# Altium integrated library Linear Technology Power Management Hot Swap Controllers.IntLib: 992 symbols (part 39 of 93)
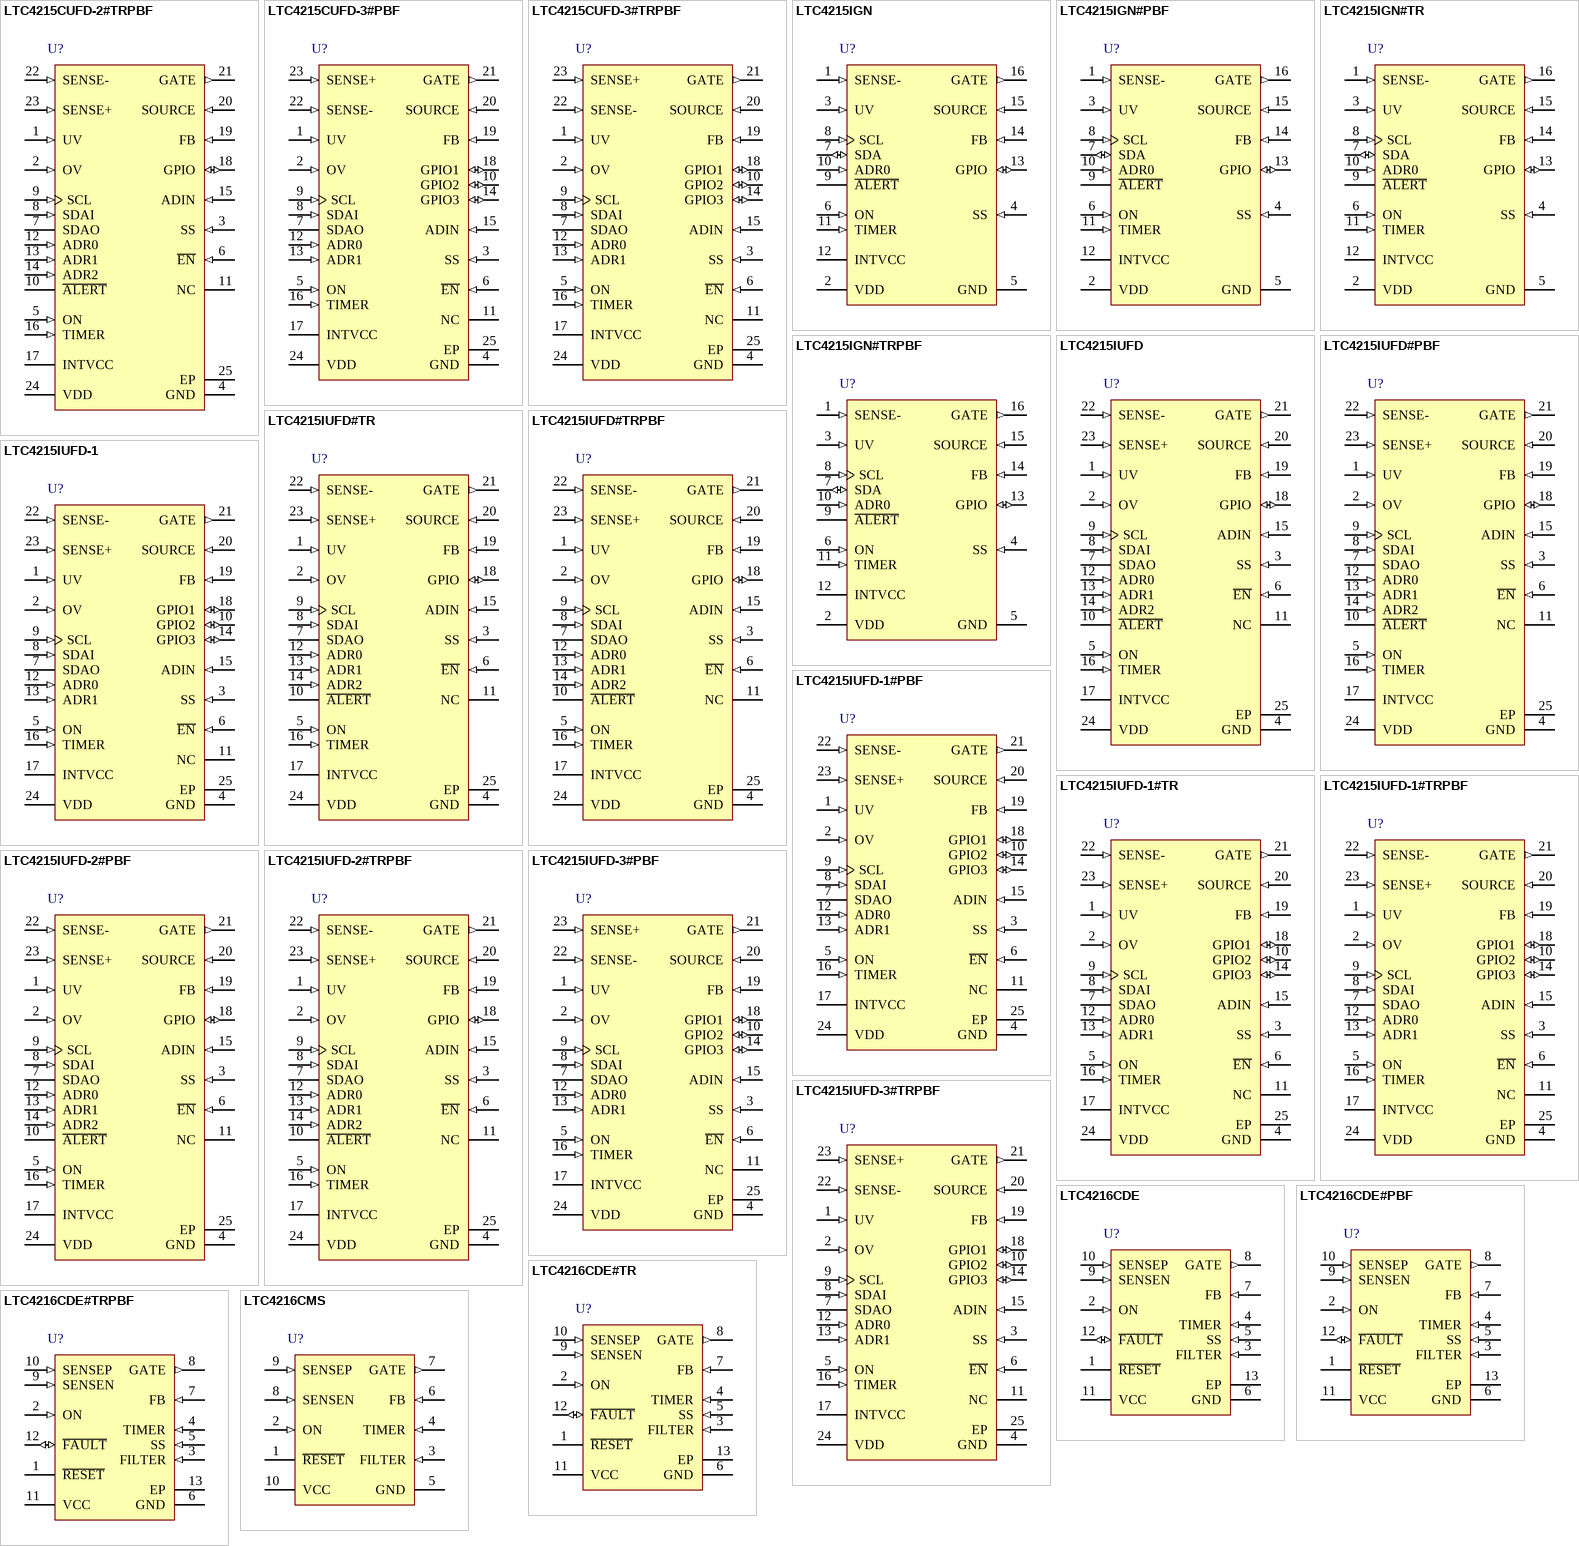
[diagram p75: symbols LTC4215CUFD-2#TRPBF to LTC4216CMS]

## LTC4216CDE#TR
designator U?
Ultralow Voltage Hot Swap Controller, 0 to 6 V Vin, 12-pin SON (DE-UE-12), 0 to 70 degC, Tape and Reel; Manufacturer: Linear Technology; PartNumber: LTC4216CDE#TR; Active Limiting: yes; Circuit Breaker Accuracy(%): 14; Circuit Breaker Threshold: 25 mV; Circuit Breakers(#): 1; Extended Temp: C, I; Fast Comparator: no; In-Rush Current: Active/SS; Vin Range: 0 to 6 V; DatasheetVersion: Rev. A; PackageVersion: Rev. D, 06/2010; PackageReference: DE-UE-12; PackageDescription: 12-Pin Plastic DFN, Body 4 x 3 mm, Pitch 0.5 mm; Fault: yes; Foldback: no; Packing: Tape and Reel; Power Good: no; Reset: yes; RoHS: FALSE; Mounting Technology: Surface Mount; Code_JEDEC: MO-229; ComponentLink1Description: Manufacturer URL; ComponentLink1URL: http://www.linear.com/; ComponentLink2Description: Datasheet; ComponentLink2URL: http://cds.linear.com/docs/en/datasheet/4216fa.pdf; ComponentLink3Description: Package Specification; ComponentLink3URL: http://cds.linear.com/docs/en/packaging/DFN_12_05-08-1695.pdf
footprint LT-DE-UE-12_V (SON, 12-Leads, Body 4x3mm, Pitch 0.5mm, Thermal Pad 3.3x1.7mm)
pins: 1 ~{RESET} (hiz) "Reset or Power-Good Output. Open drain output that pulls low if the FB pin voltage falls below its threshold (0.6V). During the start-up cycle, the R\E\S\E\T\ pin goes high impedance at the end of the second timing cycle (See Datasheet)", 2 ON (in) "ON Control Input. A rising edge above the ON pin threshold (0.8V) initiates the start-up cycle and turns on the external N-channel MOSFET. A falling edge below 0.72V (80mV ON pin hysteresis) turns it off. If this pin is (See Datasheet)", 3 FILTER (in) "Fault Filter Input. Connect a capacitor between this pin and ground to set up the fault filter delay. This pin sources 60uA or sinks 2.4uA when the voltage across the sense resistor exceeds 25mV or drops below 25mV (See Datasheet)", 4 TIMER (in) "Timer Input. Connect a capacitor between this pin and ground to set up the start-up timing cycle duration. It also defines the R\E\S\E\T\ power-good delay from the instant the FB pin voltage exceeds 0.6V. This pin sources (See Datasheet)", 5 SS (in) "Soft-Start Control Input. Connect a capacitor between this pin and ground for soft-start during power-up. It controls the GATE ramp up, limiting the rate of change of the inrush current when the external MOSFET turns on. If (See Datasheet)", 6 GND (power) "Device Ground.", 7 FB (in) "Output Monitor for Reset Output. A resistive divider from the external MOSFET’s source terminal is tied to this pin. When the voltage at this pin drops below 0.6V, the R\E\S\E\T\ pin pulls low. The FB comparator fallin(See Datasheet)", 8 GATE (out) "Gate Drive for External N-Channel MOSFET. An internal charge pump provides 20uA gate pull-up current and sufficient gate overdrive to the external MOSFET. An internal shunt regulator limits the GATE pin voltage to about 6.2V (See Datasheet)", 9 SENSEN (in) "Circuit Breaker Negative Sense Input. Connect this pin to the sense resistor terminal wired to the drain of the external N-channel MOSFET. The sense resistor is placed in the power path between SENSEP and SENSEN pins to (See Datasheet)", 10 SENSEP (in) "Circuit Breaker Positive Sense Input. Connect this pin to the sense resistor terminal wired to the positive supply input for the external output load. This positive supply range extends from 0V to 6V.", 11 VCC (power) "Bias Supply Input. Operates from 2.3V to 6V. An internal undervoltage lockout circuit disables the device until the input supply voltage at VCC exceeds 2.12V typically.", 12 ~{FAULT} (io) "Fault Input and Output. As an input, driving this pin low (<1.253V) will latch-off the device to fault mode. As an output, it is either pulled high by an internal 5uA pull-up or an external pull-up resistor to positive (See Datasheet)", 13 EP (power) "Exposed pad may be left open or connected to device ground."

## LTC4216CDE#TRPBF
designator U?
Ultralow Voltage Hot Swap Controller, 0 to 6 V Vin, 12-pin SON (DE-UE-12), 0 to 70 degC, Pb-Free, Tape and Reel; Manufacturer: Linear Technology; PartNumber: LTC4216CDE#TRPBF; Active Limiting: yes; Circuit Breaker Accuracy(%): 14; Circuit Breaker Threshold: 25 mV; Circuit Breakers(#): 1; Extended Temp: C, I; Fast Comparator: no; In-Rush Current: Active/SS; Vin Range: 0 to 6 V; DatasheetVersion: Rev. A; PackageVersion: Rev. D, 06/2010; PackageReference: DE-UE-12; PackageDescription: 12-Pin Plastic DFN, Body 4 x 3 mm, Pitch 0.5 mm; Supplier 1: Digi-Key; Supplier Part Number 1: LTC4216CDE#TRPBF-ND; Supplier 2: Newark; Supplier Part Number 2: 56M8842; Fault: yes; Foldback: no; Packing: Tape and Reel; Power Good: no; Reset: yes; RoHS: TRUE; Mounting Technology: Surface Mount; Code_JEDEC: MO-229; ComponentLink1Description: Manufacturer URL; ComponentLink1URL: http://www.linear.com/; ComponentLink2Description: Datasheet; ComponentLink2URL: http://cds.linear.com/docs/en/datasheet/4216fa.pdf; ComponentLink3Description: Package Specification; ComponentLink3URL: http://cds.linear.com/docs/en/packaging/DFN_12_05-08-1695.pdf
footprint LT-DE-UE-12_V (SON, 12-Leads, Body 4x3mm, Pitch 0.5mm, Thermal Pad 3.3x1.7mm)
pins: 1 ~{RESET} (hiz) "Reset or Power-Good Output. Open drain output that pulls low if the FB pin voltage falls below its threshold (0.6V). During the start-up cycle, the R\E\S\E\T\ pin goes high impedance at the end of the second timing cycle (See Datasheet)", 2 ON (in) "ON Control Input. A rising edge above the ON pin threshold (0.8V) initiates the start-up cycle and turns on the external N-channel MOSFET. A falling edge below 0.72V (80mV ON pin hysteresis) turns it off. If this pin is (See Datasheet)", 3 FILTER (in) "Fault Filter Input. Connect a capacitor between this pin and ground to set up the fault filter delay. This pin sources 60uA or sinks 2.4uA when the voltage across the sense resistor exceeds 25mV or drops below 25mV (See Datasheet)", 4 TIMER (in) "Timer Input. Connect a capacitor between this pin and ground to set up the start-up timing cycle duration. It also defines the R\E\S\E\T\ power-good delay from the instant the FB pin voltage exceeds 0.6V. This pin sources (See Datasheet)", 5 SS (in) "Soft-Start Control Input. Connect a capacitor between this pin and ground for soft-start during power-up. It controls the GATE ramp up, limiting the rate of change of the inrush current when the external MOSFET turns on. If (See Datasheet)", 6 GND (power) "Device Ground.", 7 FB (in) "Output Monitor for Reset Output. A resistive divider from the external MOSFET’s source terminal is tied to this pin. When the voltage at this pin drops below 0.6V, the R\E\S\E\T\ pin pulls low. The FB comparator fallin(See Datasheet)", 8 GATE (out) "Gate Drive for External N-Channel MOSFET. An internal charge pump provides 20uA gate pull-up current and sufficient gate overdrive to the external MOSFET. An internal shunt regulator limits the GATE pin voltage to about 6.2V (See Datasheet)", 9 SENSEN (in) "Circuit Breaker Negative Sense Input. Connect this pin to the sense resistor terminal wired to the drain of the external N-channel MOSFET. The sense resistor is placed in the power path between SENSEP and SENSEN pins to (See Datasheet)", 10 SENSEP (in) "Circuit Breaker Positive Sense Input. Connect this pin to the sense resistor terminal wired to the positive supply input for the external output load. This positive supply range extends from 0V to 6V.", 11 VCC (power) "Bias Supply Input. Operates from 2.3V to 6V. An internal undervoltage lockout circuit disables the device until the input supply voltage at VCC exceeds 2.12V typically.", 12 ~{FAULT} (io) "Fault Input and Output. As an input, driving this pin low (<1.253V) will latch-off the device to fault mode. As an output, it is either pulled high by an internal 5uA pull-up or an external pull-up resistor to positive (See Datasheet)", 13 EP (power) "Exposed pad may be left open or connected to device ground."

## LTC4216CMS
designator U?
Ultralow Voltage Hot Swap Controller, 0 to 6 V Vin, 10-pin SOP (MS-10), 0 to 70 degC; Manufacturer: Linear Technology; PartNumber: LTC4216CMS; Active Limiting: yes; Circuit Breaker Accuracy(%): 14; Circuit Breaker Threshold: 25 mV; Circuit Breakers(#): 1; Extended Temp: C, I; Fast Comparator: no; In-Rush Current: Active/SS; Vin Range: 0 to 6 V; DatasheetVersion: Rev. A; PackageVersion: Rev. E, 06/2010; PackageReference: MS-10; PackageDescription: 10-Pin Plastic MSOP, Body 3 x 3 mm, Pitch 0.5 mm; Fault: yes; Foldback: no; Power Good: no; Reset: yes; RoHS: FALSE; Mounting Technology: Surface Mount; ComponentLink1Description: Manufacturer URL; ComponentLink1URL: http://www.linear.com/; ComponentLink2Description: Datasheet; ComponentLink2URL: http://cds.linear.com/docs/en/datasheet/4216fa.pdf; ComponentLink3Description: Package Specification; ComponentLink3URL: http://cds.linear.com/docs/en/packaging/05081661_F_MS.pdf
footprint LT-MS-10_N (SOP, 10-Leads, Body 3.1x3.1mm, Pitch 0.5mm, IPC Medium Density)
footprint LT-MS-10_L (SOP, 10-Leads, Body 3.1x3.1mm, Pitch 0.5mm, IPC High Density)
footprint LT-MS-10_M (SOP, 10-Leads, Body 3.1x3.1mm, Pitch 0.5mm, IPC Low Density)
pins: 1 ~{RESET} (hiz) "Reset or Power-Good Output. Open drain output that pulls low if the FB pin voltage falls below its threshold (0.6V). During the start-up cycle, the R\E\S\E\T\ pin goes high impedance at the end of the second timing cycle (See Datasheet)", 2 ON (in) "ON Control Input. A rising edge above the ON pin threshold (0.8V) initiates the start-up cycle and turns on the external N-channel MOSFET. A falling edge below 0.72V (80mV ON pin hysteresis) turns it off. If this pin is (See Datasheet)", 3 FILTER (in) "Fault Filter Input. Connect a capacitor between this pin and ground to set up the fault filter delay. This pin sources 60uA or sinks 2.4uA when the voltage across the sense resistor exceeds 25mV or drops below 25mV (See Datasheet)", 4 TIMER (in) "Timer Input. Connect a capacitor between this pin and ground to set up the start-up timing cycle duration. It also defines the R\E\S\E\T\ power-good delay from the instant the FB pin voltage exceeds 0.6V. This pin sources (See Datasheet)", 5 GND (power) "Device Ground.", 6 FB (in) "Output Monitor for Reset Output. A resistive divider from the external MOSFET’s source terminal is tied to this pin. When the voltage at this pin drops below 0.6V, the R\E\S\E\T\ pin pulls low. The FB comparator fallin(See Datasheet)", 7 GATE (out) "Gate Drive for External N-Channel MOSFET. An internal charge pump provides 20uA gate pull-up current and sufficient gate overdrive to the external MOSFET. An internal shunt regulator limits the GATE pin voltage to about 6.2V (See Datasheet)", 8 SENSEN (in) "Circuit Breaker Negative Sense Input. Connect this pin to the sense resistor terminal wired to the drain of the external N-channel MOSFET. The sense resistor is placed in the power path between SENSEP and SENSEN pins to (See Datasheet)", 9 SENSEP (in) "Circuit Breaker Positive Sense Input. Connect this pin to the sense resistor terminal wired to the positive supply input for the external output load. This positive supply range extends from 0V to 6V.", 10 VCC (power) "Bias Supply Input. Operates from 2.3V to 6V. An internal undervoltage lockout circuit disables the device until the input supply voltage at VCC exceeds 2.12V typically."

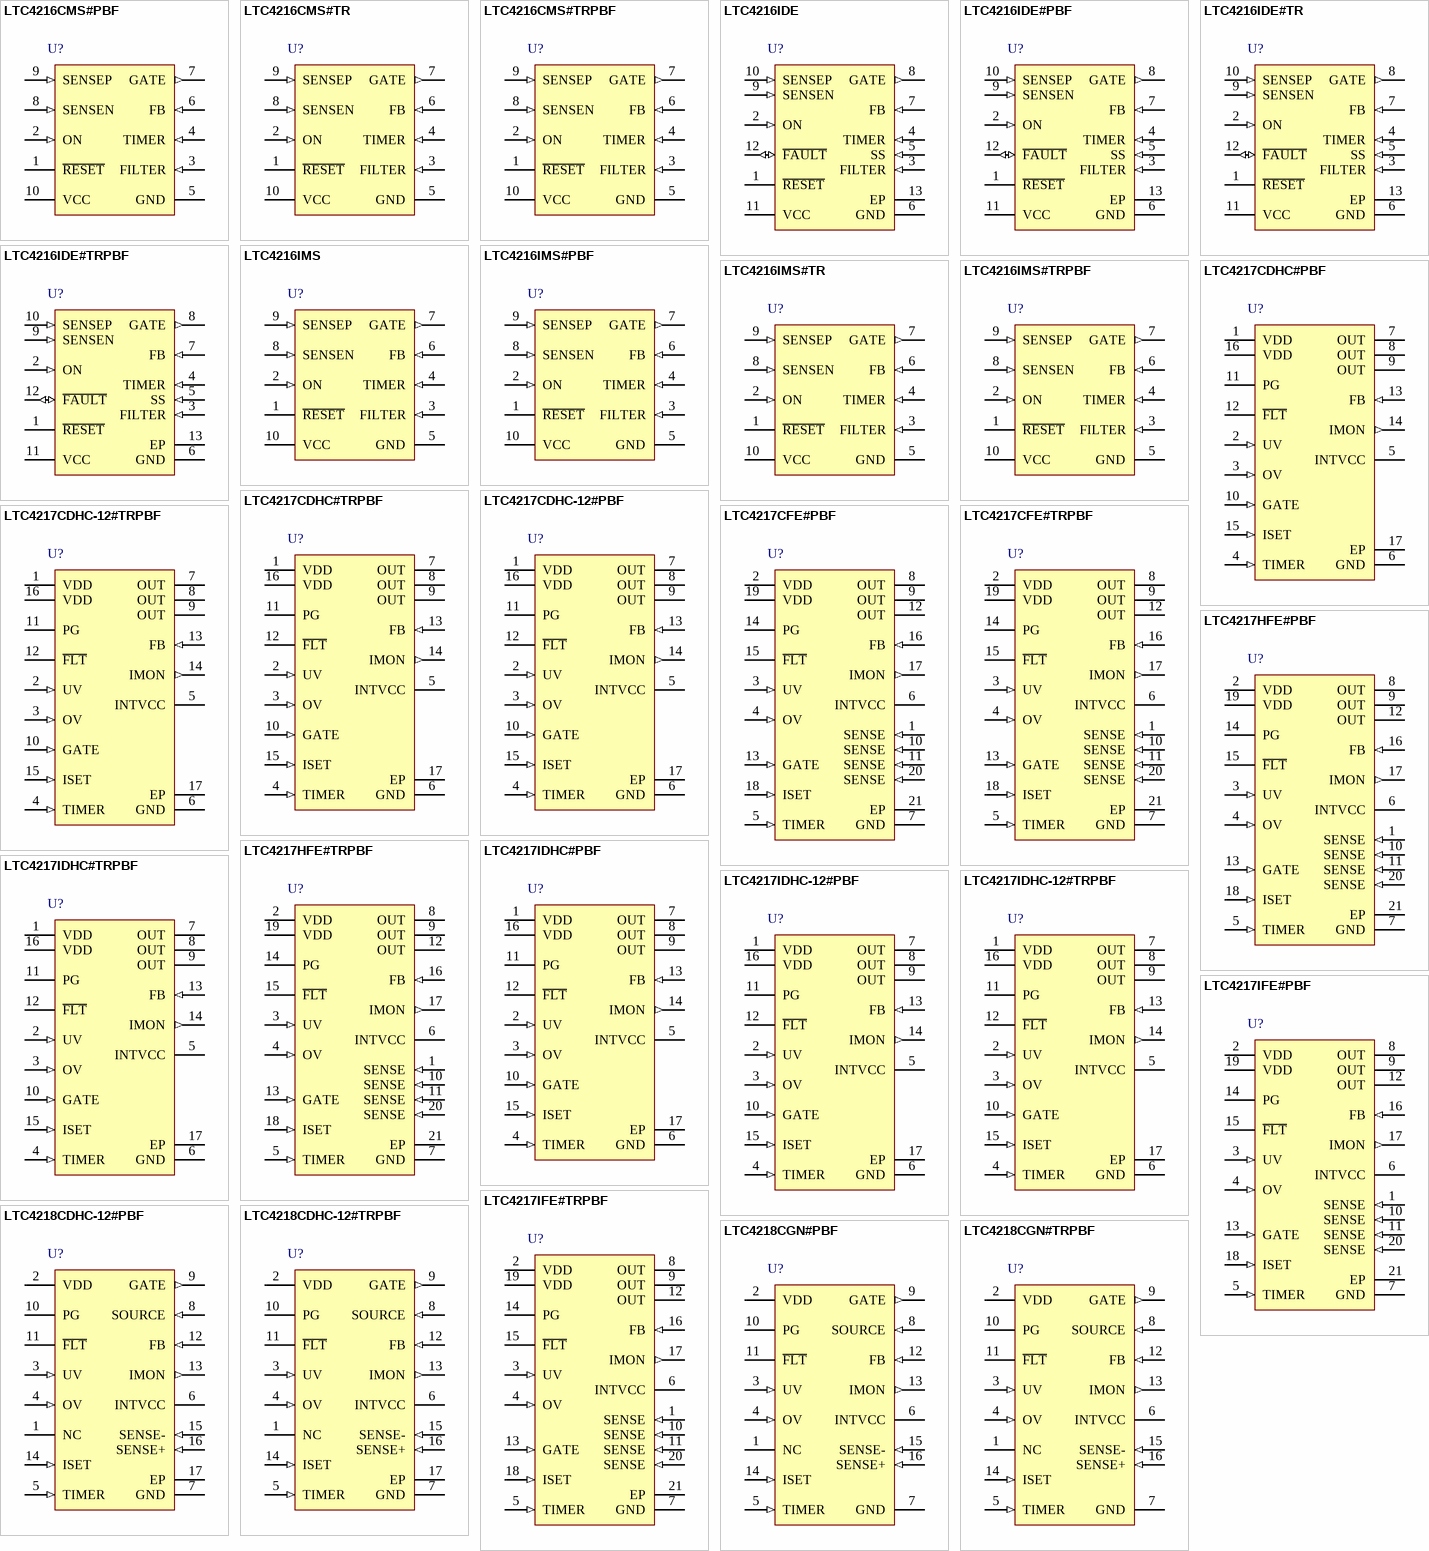
[diagram p16: symbols LTC4216CMS#PBF to LTC4218CGN#TRPBF]

## LTC4216CMS#PBF
designator U?
Ultralow Voltage Hot Swap Controller, 0 to 6 V Vin, 10-pin SOP (MS-10), 0 to 70 degC, Pb-Free; Manufacturer: Linear Technology; PartNumber: LTC4216CMS#PBF; Active Limiting: yes; Circuit Breaker Accuracy(%): 14; Circuit Breaker Threshold: 25 mV; Circuit Breakers(#): 1; Extended Temp: C, I; Fast Comparator: no; In-Rush Current: Active/SS; Vin Range: 0 to 6 V; DatasheetVersion: Rev. A; PackageVersion: Rev. E, 06/2010; PackageReference: MS-10; PackageDescription: 10-Pin Plastic MSOP, Body 3 x 3 mm, Pitch 0.5 mm; Supplier 1: Digi-Key; Supplier Part Number 1: LTC4216CMS#PBF-ND; Fault: yes; Foldback: no; Power Good: no; Reset: yes; RoHS: TRUE; Mounting Technology: Surface Mount; ComponentLink1Description: Manufacturer URL; ComponentLink1URL: http://www.linear.com/; ComponentLink2Description: Datasheet; ComponentLink2URL: http://cds.linear.com/docs/en/datasheet/4216fa.pdf; ComponentLink3Description: Package Specification; ComponentLink3URL: http://cds.linear.com/docs/en/packaging/05081661_F_MS.pdf
footprint LT-MS-10_N (SOP, 10-Leads, Body 3.1x3.1mm, Pitch 0.5mm, IPC Medium Density)
footprint LT-MS-10_L (SOP, 10-Leads, Body 3.1x3.1mm, Pitch 0.5mm, IPC High Density)
footprint LT-MS-10_M (SOP, 10-Leads, Body 3.1x3.1mm, Pitch 0.5mm, IPC Low Density)
pins: 1 ~{RESET} (hiz) "Reset or Power-Good Output. Open drain output that pulls low if the FB pin voltage falls below its threshold (0.6V). During the start-up cycle, the R\E\S\E\T\ pin goes high impedance at the end of the second timing cycle (See Datasheet)", 2 ON (in) "ON Control Input. A rising edge above the ON pin threshold (0.8V) initiates the start-up cycle and turns on the external N-channel MOSFET. A falling edge below 0.72V (80mV ON pin hysteresis) turns it off. If this pin is (See Datasheet)", 3 FILTER (in) "Fault Filter Input. Connect a capacitor between this pin and ground to set up the fault filter delay. This pin sources 60uA or sinks 2.4uA when the voltage across the sense resistor exceeds 25mV or drops below 25mV (See Datasheet)", 4 TIMER (in) "Timer Input. Connect a capacitor between this pin and ground to set up the start-up timing cycle duration. It also defines the R\E\S\E\T\ power-good delay from the instant the FB pin voltage exceeds 0.6V. This pin sources (See Datasheet)", 5 GND (power) "Device Ground.", 6 FB (in) "Output Monitor for Reset Output. A resistive divider from the external MOSFET’s source terminal is tied to this pin. When the voltage at this pin drops below 0.6V, the R\E\S\E\T\ pin pulls low. The FB comparator fallin(See Datasheet)", 7 GATE (out) "Gate Drive for External N-Channel MOSFET. An internal charge pump provides 20uA gate pull-up current and sufficient gate overdrive to the external MOSFET. An internal shunt regulator limits the GATE pin voltage to about 6.2V (See Datasheet)", 8 SENSEN (in) "Circuit Breaker Negative Sense Input. Connect this pin to the sense resistor terminal wired to the drain of the external N-channel MOSFET. The sense resistor is placed in the power path between SENSEP and SENSEN pins to (See Datasheet)", 9 SENSEP (in) "Circuit Breaker Positive Sense Input. Connect this pin to the sense resistor terminal wired to the positive supply input for the external output load. This positive supply range extends from 0V to 6V.", 10 VCC (power) "Bias Supply Input. Operates from 2.3V to 6V. An internal undervoltage lockout circuit disables the device until the input supply voltage at VCC exceeds 2.12V typically."

## LTC4216CMS#TR
designator U?
Ultralow Voltage Hot Swap Controller, 0 to 6 V Vin, 10-pin SOP (MS-10), 0 to 70 degC, Tape and Reel; Manufacturer: Linear Technology; PartNumber: LTC4216CMS#TR; Active Limiting: yes; Circuit Breaker Accuracy(%): 14; Circuit Breaker Threshold: 25 mV; Circuit Breakers(#): 1; Extended Temp: C, I; Fast Comparator: no; In-Rush Current: Active/SS; Vin Range: 0 to 6 V; DatasheetVersion: Rev. A; PackageVersion: Rev. E, 06/2010; PackageReference: MS-10; PackageDescription: 10-Pin Plastic MSOP, Body 3 x 3 mm, Pitch 0.5 mm; Fault: yes; Foldback: no; Packing: Tape and Reel; Power Good: no; Reset: yes; RoHS: FALSE; Mounting Technology: Surface Mount; ComponentLink1Description: Manufacturer URL; ComponentLink1URL: http://www.linear.com/; ComponentLink2Description: Datasheet; ComponentLink2URL: http://cds.linear.com/docs/en/datasheet/4216fa.pdf; ComponentLink3Description: Package Specification; ComponentLink3URL: http://cds.linear.com/docs/en/packaging/05081661_F_MS.pdf
footprint LT-MS-10_N (SOP, 10-Leads, Body 3.1x3.1mm, Pitch 0.5mm, IPC Medium Density)
footprint LT-MS-10_L (SOP, 10-Leads, Body 3.1x3.1mm, Pitch 0.5mm, IPC High Density)
footprint LT-MS-10_M (SOP, 10-Leads, Body 3.1x3.1mm, Pitch 0.5mm, IPC Low Density)
pins: 1 ~{RESET} (hiz) "Reset or Power-Good Output. Open drain output that pulls low if the FB pin voltage falls below its threshold (0.6V). During the start-up cycle, the R\E\S\E\T\ pin goes high impedance at the end of the second timing cycle (See Datasheet)", 2 ON (in) "ON Control Input. A rising edge above the ON pin threshold (0.8V) initiates the start-up cycle and turns on the external N-channel MOSFET. A falling edge below 0.72V (80mV ON pin hysteresis) turns it off. If this pin is (See Datasheet)", 3 FILTER (in) "Fault Filter Input. Connect a capacitor between this pin and ground to set up the fault filter delay. This pin sources 60uA or sinks 2.4uA when the voltage across the sense resistor exceeds 25mV or drops below 25mV (See Datasheet)", 4 TIMER (in) "Timer Input. Connect a capacitor between this pin and ground to set up the start-up timing cycle duration. It also defines the R\E\S\E\T\ power-good delay from the instant the FB pin voltage exceeds 0.6V. This pin sources (See Datasheet)", 5 GND (power) "Device Ground.", 6 FB (in) "Output Monitor for Reset Output. A resistive divider from the external MOSFET’s source terminal is tied to this pin. When the voltage at this pin drops below 0.6V, the R\E\S\E\T\ pin pulls low. The FB comparator fallin(See Datasheet)", 7 GATE (out) "Gate Drive for External N-Channel MOSFET. An internal charge pump provides 20uA gate pull-up current and sufficient gate overdrive to the external MOSFET. An internal shunt regulator limits the GATE pin voltage to about 6.2V (See Datasheet)", 8 SENSEN (in) "Circuit Breaker Negative Sense Input. Connect this pin to the sense resistor terminal wired to the drain of the external N-channel MOSFET. The sense resistor is placed in the power path between SENSEP and SENSEN pins to (See Datasheet)", 9 SENSEP (in) "Circuit Breaker Positive Sense Input. Connect this pin to the sense resistor terminal wired to the positive supply input for the external output load. This positive supply range extends from 0V to 6V.", 10 VCC (power) "Bias Supply Input. Operates from 2.3V to 6V. An internal undervoltage lockout circuit disables the device until the input supply voltage at VCC exceeds 2.12V typically."

## LTC4216CMS#TRPBF
designator U?
Ultralow Voltage Hot Swap Controller, 0 to 6 V Vin, 10-pin SOP (MS-10), 0 to 70 degC, Pb-Free, Tape and Reel; Manufacturer: Linear Technology; PartNumber: LTC4216CMS#TRPBF; Active Limiting: yes; Circuit Breaker Accuracy(%): 14; Circuit Breaker Threshold: 25 mV; Circuit Breakers(#): 1; Extended Temp: C, I; Fast Comparator: no; In-Rush Current: Active/SS; Vin Range: 0 to 6 V; DatasheetVersion: Rev. A; PackageVersion: Rev. E, 06/2010; PackageReference: MS-10; PackageDescription: 10-Pin Plastic MSOP, Body 3 x 3 mm, Pitch 0.5 mm; Supplier 1: Digi-Key; Supplier Part Number 1: LTC4216CMS#TRPBF-ND; Fault: yes; Foldback: no; Packing: Tape and Reel; Power Good: no; Reset: yes; RoHS: TRUE; Mounting Technology: Surface Mount; ComponentLink1Description: Manufacturer URL; ComponentLink1URL: http://www.linear.com/; ComponentLink2Description: Datasheet; ComponentLink2URL: http://cds.linear.com/docs/en/datasheet/4216fa.pdf; ComponentLink3Description: Package Specification; ComponentLink3URL: http://cds.linear.com/docs/en/packaging/05081661_F_MS.pdf
footprint LT-MS-10_N (SOP, 10-Leads, Body 3.1x3.1mm, Pitch 0.5mm, IPC Medium Density)
footprint LT-MS-10_L (SOP, 10-Leads, Body 3.1x3.1mm, Pitch 0.5mm, IPC High Density)
footprint LT-MS-10_M (SOP, 10-Leads, Body 3.1x3.1mm, Pitch 0.5mm, IPC Low Density)
pins: 1 ~{RESET} (hiz) "Reset or Power-Good Output. Open drain output that pulls low if the FB pin voltage falls below its threshold (0.6V). During the start-up cycle, the R\E\S\E\T\ pin goes high impedance at the end of the second timing cycle (See Datasheet)", 2 ON (in) "ON Control Input. A rising edge above the ON pin threshold (0.8V) initiates the start-up cycle and turns on the external N-channel MOSFET. A falling edge below 0.72V (80mV ON pin hysteresis) turns it off. If this pin is (See Datasheet)", 3 FILTER (in) "Fault Filter Input. Connect a capacitor between this pin and ground to set up the fault filter delay. This pin sources 60uA or sinks 2.4uA when the voltage across the sense resistor exceeds 25mV or drops below 25mV (See Datasheet)", 4 TIMER (in) "Timer Input. Connect a capacitor between this pin and ground to set up the start-up timing cycle duration. It also defines the R\E\S\E\T\ power-good delay from the instant the FB pin voltage exceeds 0.6V. This pin sources (See Datasheet)", 5 GND (power) "Device Ground.", 6 FB (in) "Output Monitor for Reset Output. A resistive divider from the external MOSFET’s source terminal is tied to this pin. When the voltage at this pin drops below 0.6V, the R\E\S\E\T\ pin pulls low. The FB comparator fallin(See Datasheet)", 7 GATE (out) "Gate Drive for External N-Channel MOSFET. An internal charge pump provides 20uA gate pull-up current and sufficient gate overdrive to the external MOSFET. An internal shunt regulator limits the GATE pin voltage to about 6.2V (See Datasheet)", 8 SENSEN (in) "Circuit Breaker Negative Sense Input. Connect this pin to the sense resistor terminal wired to the drain of the external N-channel MOSFET. The sense resistor is placed in the power path between SENSEP and SENSEN pins to (See Datasheet)", 9 SENSEP (in) "Circuit Breaker Positive Sense Input. Connect this pin to the sense resistor terminal wired to the positive supply input for the external output load. This positive supply range extends from 0V to 6V.", 10 VCC (power) "Bias Supply Input. Operates from 2.3V to 6V. An internal undervoltage lockout circuit disables the device until the input supply voltage at VCC exceeds 2.12V typically."

## LTC4216IDE
designator U?
Ultralow Voltage Hot Swap Controller, 0 to 6 V Vin, 12-pin SON (DE-UE-12), -40 to 85 degC; Manufacturer: Linear Technology; PartNumber: LTC4216IDE; Active Limiting: yes; Circuit Breaker Accuracy(%): 14; Circuit Breaker Threshold: 25 mV; Circuit Breakers(#): 1; Extended Temp: C, I; Fast Comparator: no; In-Rush Current: Active/SS; Vin Range: 0 to 6 V; DatasheetVersion: Rev. A; PackageVersion: Rev. D, 06/2010; PackageReference: DE-UE-12; PackageDescription: 12-Pin Plastic DFN, Body 4 x 3 mm, Pitch 0.5 mm; Fault: yes; Foldback: no; Power Good: no; Reset: yes; RoHS: FALSE; Mounting Technology: Surface Mount; Code_JEDEC: MO-229; ComponentLink1Description: Manufacturer URL; ComponentLink1URL: http://www.linear.com/; ComponentLink2Description: Datasheet; ComponentLink2URL: http://cds.linear.com/docs/en/datasheet/4216fa.pdf; ComponentLink3Description: Package Specification; ComponentLink3URL: http://cds.linear.com/docs/en/packaging/DFN_12_05-08-1695.pdf
footprint LT-DE-UE-12_V (SON, 12-Leads, Body 4x3mm, Pitch 0.5mm, Thermal Pad 3.3x1.7mm)
pins: 1 ~{RESET} (hiz) "Reset or Power-Good Output. Open drain output that pulls low if the FB pin voltage falls below its threshold (0.6V). During the start-up cycle, the R\E\S\E\T\ pin goes high impedance at the end of the second timing cycle (See Datasheet)", 2 ON (in) "ON Control Input. A rising edge above the ON pin threshold (0.8V) initiates the start-up cycle and turns on the external N-channel MOSFET. A falling edge below 0.72V (80mV ON pin hysteresis) turns it off. If this pin is (See Datasheet)", 3 FILTER (in) "Fault Filter Input. Connect a capacitor between this pin and ground to set up the fault filter delay. This pin sources 60uA or sinks 2.4uA when the voltage across the sense resistor exceeds 25mV or drops below 25mV (See Datasheet)", 4 TIMER (in) "Timer Input. Connect a capacitor between this pin and ground to set up the start-up timing cycle duration. It also defines the R\E\S\E\T\ power-good delay from the instant the FB pin voltage exceeds 0.6V. This pin sources (See Datasheet)", 5 SS (in) "Soft-Start Control Input. Connect a capacitor between this pin and ground for soft-start during power-up. It controls the GATE ramp up, limiting the rate of change of the inrush current when the external MOSFET turns on. If (See Datasheet)", 6 GND (power) "Device Ground.", 7 FB (in) "Output Monitor for Reset Output. A resistive divider from the external MOSFET’s source terminal is tied to this pin. When the voltage at this pin drops below 0.6V, the R\E\S\E\T\ pin pulls low. The FB comparator fallin(See Datasheet)", 8 GATE (out) "Gate Drive for External N-Channel MOSFET. An internal charge pump provides 20uA gate pull-up current and sufficient gate overdrive to the external MOSFET. An internal shunt regulator limits the GATE pin voltage to about 6.2V (See Datasheet)", 9 SENSEN (in) "Circuit Breaker Negative Sense Input. Connect this pin to the sense resistor terminal wired to the drain of the external N-channel MOSFET. The sense resistor is placed in the power path between SENSEP and SENSEN pins to (See Datasheet)", 10 SENSEP (in) "Circuit Breaker Positive Sense Input. Connect this pin to the sense resistor terminal wired to the positive supply input for the external output load. This positive supply range extends from 0V to 6V.", 11 VCC (power) "Bias Supply Input. Operates from 2.3V to 6V. An internal undervoltage lockout circuit disables the device until the input supply voltage at VCC exceeds 2.12V typically.", 12 ~{FAULT} (io) "Fault Input and Output. As an input, driving this pin low (<1.253V) will latch-off the device to fault mode. As an output, it is either pulled high by an internal 5uA pull-up or an external pull-up resistor to positive (See Datasheet)", 13 EP (power) "Exposed pad may be left open or connected to device ground."

## LTC4216IDE#PBF
designator U?
Ultralow Voltage Hot Swap Controller, 0 to 6 V Vin, 12-pin SON (DE-UE-12), -40 to 85 degC, Pb-Free; Manufacturer: Linear Technology; PartNumber: LTC4216IDE#PBF; Active Limiting: yes; Circuit Breaker Accuracy(%): 14; Circuit Breaker Threshold: 25 mV; Circuit Breakers(#): 1; Extended Temp: C, I; Fast Comparator: no; In-Rush Current: Active/SS; Vin Range: 0 to 6 V; DatasheetVersion: Rev. A; PackageVersion: Rev. D, 06/2010; PackageReference: DE-UE-12; PackageDescription: 12-Pin Plastic DFN, Body 4 x 3 mm, Pitch 0.5 mm; Supplier 1: Digi-Key; Supplier Part Number 1: LTC4216IDE#PBF-ND; Supplier 2: Farnell; Supplier Part Number 2: 2295333; Fault: yes; Foldback: no; Power Good: no; Reset: yes; RoHS: TRUE; Mounting Technology: Surface Mount; Code_JEDEC: MO-229; ComponentLink1Description: Manufacturer URL; ComponentLink1URL: http://www.linear.com/; ComponentLink2Description: Datasheet; ComponentLink2URL: http://cds.linear.com/docs/en/datasheet/4216fa.pdf; ComponentLink3Description: Package Specification; ComponentLink3URL: http://cds.linear.com/docs/en/packaging/DFN_12_05-08-1695.pdf
footprint LT-DE-UE-12_V (SON, 12-Leads, Body 4x3mm, Pitch 0.5mm, Thermal Pad 3.3x1.7mm)
pins: 1 ~{RESET} (hiz) "Reset or Power-Good Output. Open drain output that pulls low if the FB pin voltage falls below its threshold (0.6V). During the start-up cycle, the R\E\S\E\T\ pin goes high impedance at the end of the second timing cycle (See Datasheet)", 2 ON (in) "ON Control Input. A rising edge above the ON pin threshold (0.8V) initiates the start-up cycle and turns on the external N-channel MOSFET. A falling edge below 0.72V (80mV ON pin hysteresis) turns it off. If this pin is (See Datasheet)", 3 FILTER (in) "Fault Filter Input. Connect a capacitor between this pin and ground to set up the fault filter delay. This pin sources 60uA or sinks 2.4uA when the voltage across the sense resistor exceeds 25mV or drops below 25mV (See Datasheet)", 4 TIMER (in) "Timer Input. Connect a capacitor between this pin and ground to set up the start-up timing cycle duration. It also defines the R\E\S\E\T\ power-good delay from the instant the FB pin voltage exceeds 0.6V. This pin sources (See Datasheet)", 5 SS (in) "Soft-Start Control Input. Connect a capacitor between this pin and ground for soft-start during power-up. It controls the GATE ramp up, limiting the rate of change of the inrush current when the external MOSFET turns on. If (See Datasheet)", 6 GND (power) "Device Ground.", 7 FB (in) "Output Monitor for Reset Output. A resistive divider from the external MOSFET’s source terminal is tied to this pin. When the voltage at this pin drops below 0.6V, the R\E\S\E\T\ pin pulls low. The FB comparator fallin(See Datasheet)", 8 GATE (out) "Gate Drive for External N-Channel MOSFET. An internal charge pump provides 20uA gate pull-up current and sufficient gate overdrive to the external MOSFET. An internal shunt regulator limits the GATE pin voltage to about 6.2V (See Datasheet)", 9 SENSEN (in) "Circuit Breaker Negative Sense Input. Connect this pin to the sense resistor terminal wired to the drain of the external N-channel MOSFET. The sense resistor is placed in the power path between SENSEP and SENSEN pins to (See Datasheet)", 10 SENSEP (in) "Circuit Breaker Positive Sense Input. Connect this pin to the sense resistor terminal wired to the positive supply input for the external output load. This positive supply range extends from 0V to 6V.", 11 VCC (power) "Bias Supply Input. Operates from 2.3V to 6V. An internal undervoltage lockout circuit disables the device until the input supply voltage at VCC exceeds 2.12V typically.", 12 ~{FAULT} (io) "Fault Input and Output. As an input, driving this pin low (<1.253V) will latch-off the device to fault mode. As an output, it is either pulled high by an internal 5uA pull-up or an external pull-up resistor to positive (See Datasheet)", 13 EP (power) "Exposed pad may be left open or connected to device ground."

## LTC4216IDE#TR
designator U?
Ultralow Voltage Hot Swap Controller, 0 to 6 V Vin, 12-pin SON (DE-UE-12), -40 to 85 degC, Tape and Reel; Manufacturer: Linear Technology; PartNumber: LTC4216IDE#TR; Active Limiting: yes; Circuit Breaker Accuracy(%): 14; Circuit Breaker Threshold: 25 mV; Circuit Breakers(#): 1; Extended Temp: C, I; Fast Comparator: no; In-Rush Current: Active/SS; Vin Range: 0 to 6 V; DatasheetVersion: Rev. A; PackageVersion: Rev. D, 06/2010; PackageReference: DE-UE-12; PackageDescription: 12-Pin Plastic DFN, Body 4 x 3 mm, Pitch 0.5 mm; Fault: yes; Foldback: no; Packing: Tape and Reel; Power Good: no; Reset: yes; RoHS: FALSE; Mounting Technology: Surface Mount; Code_JEDEC: MO-229; ComponentLink1Description: Manufacturer URL; ComponentLink1URL: http://www.linear.com/; ComponentLink2Description: Datasheet; ComponentLink2URL: http://cds.linear.com/docs/en/datasheet/4216fa.pdf; ComponentLink3Description: Package Specification; ComponentLink3URL: http://cds.linear.com/docs/en/packaging/DFN_12_05-08-1695.pdf
footprint LT-DE-UE-12_V (SON, 12-Leads, Body 4x3mm, Pitch 0.5mm, Thermal Pad 3.3x1.7mm)
pins: 1 ~{RESET} (hiz) "Reset or Power-Good Output. Open drain output that pulls low if the FB pin voltage falls below its threshold (0.6V). During the start-up cycle, the R\E\S\E\T\ pin goes high impedance at the end of the second timing cycle (See Datasheet)", 2 ON (in) "ON Control Input. A rising edge above the ON pin threshold (0.8V) initiates the start-up cycle and turns on the external N-channel MOSFET. A falling edge below 0.72V (80mV ON pin hysteresis) turns it off. If this pin is (See Datasheet)", 3 FILTER (in) "Fault Filter Input. Connect a capacitor between this pin and ground to set up the fault filter delay. This pin sources 60uA or sinks 2.4uA when the voltage across the sense resistor exceeds 25mV or drops below 25mV (See Datasheet)", 4 TIMER (in) "Timer Input. Connect a capacitor between this pin and ground to set up the start-up timing cycle duration. It also defines the R\E\S\E\T\ power-good delay from the instant the FB pin voltage exceeds 0.6V. This pin sources (See Datasheet)", 5 SS (in) "Soft-Start Control Input. Connect a capacitor between this pin and ground for soft-start during power-up. It controls the GATE ramp up, limiting the rate of change of the inrush current when the external MOSFET turns on. If (See Datasheet)", 6 GND (power) "Device Ground.", 7 FB (in) "Output Monitor for Reset Output. A resistive divider from the external MOSFET’s source terminal is tied to this pin. When the voltage at this pin drops below 0.6V, the R\E\S\E\T\ pin pulls low. The FB comparator fallin(See Datasheet)", 8 GATE (out) "Gate Drive for External N-Channel MOSFET. An internal charge pump provides 20uA gate pull-up current and sufficient gate overdrive to the external MOSFET. An internal shunt regulator limits the GATE pin voltage to about 6.2V (See Datasheet)", 9 SENSEN (in) "Circuit Breaker Negative Sense Input. Connect this pin to the sense resistor terminal wired to the drain of the external N-channel MOSFET. The sense resistor is placed in the power path between SENSEP and SENSEN pins to (See Datasheet)", 10 SENSEP (in) "Circuit Breaker Positive Sense Input. Connect this pin to the sense resistor terminal wired to the positive supply input for the external output load. This positive supply range extends from 0V to 6V.", 11 VCC (power) "Bias Supply Input. Operates from 2.3V to 6V. An internal undervoltage lockout circuit disables the device until the input supply voltage at VCC exceeds 2.12V typically.", 12 ~{FAULT} (io) "Fault Input and Output. As an input, driving this pin low (<1.253V) will latch-off the device to fault mode. As an output, it is either pulled high by an internal 5uA pull-up or an external pull-up resistor to positive (See Datasheet)", 13 EP (power) "Exposed pad may be left open or connected to device ground."

## LTC4216IDE#TRPBF
designator U?
Ultralow Voltage Hot Swap Controller, 0 to 6 V Vin, 12-pin SON (DE-UE-12), -40 to 85 degC, Pb-Free, Tape and Reel; Manufacturer: Linear Technology; PartNumber: LTC4216IDE#TRPBF; Active Limiting: yes; Circuit Breaker Accuracy(%): 14; Circuit Breaker Threshold: 25 mV; Circuit Breakers(#): 1; Extended Temp: C, I; Fast Comparator: no; In-Rush Current: Active/SS; Vin Range: 0 to 6 V; DatasheetVersion: Rev. A; PackageVersion: Rev. D, 06/2010; PackageReference: DE-UE-12; PackageDescription: 12-Pin Plastic DFN, Body 4 x 3 mm, Pitch 0.5 mm; Supplier 1: Digi-Key; Supplier Part Number 1: LTC4216IDE#TRPBF-ND; Fault: yes; Foldback: no; Packing: Tape and Reel; Power Good: no; Reset: yes; RoHS: TRUE; Mounting Technology: Surface Mount; Code_JEDEC: MO-229; ComponentLink1Description: Manufacturer URL; ComponentLink1URL: http://www.linear.com/; ComponentLink2Description: Datasheet; ComponentLink2URL: http://cds.linear.com/docs/en/datasheet/4216fa.pdf; ComponentLink3Description: Package Specification; ComponentLink3URL: http://cds.linear.com/docs/en/packaging/DFN_12_05-08-1695.pdf
footprint LT-DE-UE-12_V (SON, 12-Leads, Body 4x3mm, Pitch 0.5mm, Thermal Pad 3.3x1.7mm)
pins: 1 ~{RESET} (hiz) "Reset or Power-Good Output. Open drain output that pulls low if the FB pin voltage falls below its threshold (0.6V). During the start-up cycle, the R\E\S\E\T\ pin goes high impedance at the end of the second timing cycle (See Datasheet)", 2 ON (in) "ON Control Input. A rising edge above the ON pin threshold (0.8V) initiates the start-up cycle and turns on the external N-channel MOSFET. A falling edge below 0.72V (80mV ON pin hysteresis) turns it off. If this pin is (See Datasheet)", 3 FILTER (in) "Fault Filter Input. Connect a capacitor between this pin and ground to set up the fault filter delay. This pin sources 60uA or sinks 2.4uA when the voltage across the sense resistor exceeds 25mV or drops below 25mV (See Datasheet)", 4 TIMER (in) "Timer Input. Connect a capacitor between this pin and ground to set up the start-up timing cycle duration. It also defines the R\E\S\E\T\ power-good delay from the instant the FB pin voltage exceeds 0.6V. This pin sources (See Datasheet)", 5 SS (in) "Soft-Start Control Input. Connect a capacitor between this pin and ground for soft-start during power-up. It controls the GATE ramp up, limiting the rate of change of the inrush current when the external MOSFET turns on. If (See Datasheet)", 6 GND (power) "Device Ground.", 7 FB (in) "Output Monitor for Reset Output. A resistive divider from the external MOSFET’s source terminal is tied to this pin. When the voltage at this pin drops below 0.6V, the R\E\S\E\T\ pin pulls low. The FB comparator fallin(See Datasheet)", 8 GATE (out) "Gate Drive for External N-Channel MOSFET. An internal charge pump provides 20uA gate pull-up current and sufficient gate overdrive to the external MOSFET. An internal shunt regulator limits the GATE pin voltage to about 6.2V (See Datasheet)", 9 SENSEN (in) "Circuit Breaker Negative Sense Input. Connect this pin to the sense resistor terminal wired to the drain of the external N-channel MOSFET. The sense resistor is placed in the power path between SENSEP and SENSEN pins to (See Datasheet)", 10 SENSEP (in) "Circuit Breaker Positive Sense Input. Connect this pin to the sense resistor terminal wired to the positive supply input for the external output load. This positive supply range extends from 0V to 6V.", 11 VCC (power) "Bias Supply Input. Operates from 2.3V to 6V. An internal undervoltage lockout circuit disables the device until the input supply voltage at VCC exceeds 2.12V typically.", 12 ~{FAULT} (io) "Fault Input and Output. As an input, driving this pin low (<1.253V) will latch-off the device to fault mode. As an output, it is either pulled high by an internal 5uA pull-up or an external pull-up resistor to positive (See Datasheet)", 13 EP (power) "Exposed pad may be left open or connected to device ground."

## LTC4216IMS
designator U?
Ultralow Voltage Hot Swap Controller, 0 to 6 V Vin, 10-pin SOP (MS-10), -40 to 85 degC; Manufacturer: Linear Technology; PartNumber: LTC4216IMS; Active Limiting: yes; Circuit Breaker Accuracy(%): 14; Circuit Breaker Threshold: 25 mV; Circuit Breakers(#): 1; Extended Temp: C, I; Fast Comparator: no; In-Rush Current: Active/SS; Vin Range: 0 to 6 V; DatasheetVersion: Rev. A; PackageVersion: Rev. E, 06/2010; PackageReference: MS-10; PackageDescription: 10-Pin Plastic MSOP, Body 3 x 3 mm, Pitch 0.5 mm; Fault: yes; Foldback: no; Power Good: no; Reset: yes; RoHS: FALSE; Mounting Technology: Surface Mount; ComponentLink1Description: Manufacturer URL; ComponentLink1URL: http://www.linear.com/; ComponentLink2Description: Datasheet; ComponentLink2URL: http://cds.linear.com/docs/en/datasheet/4216fa.pdf; ComponentLink3Description: Package Specification; ComponentLink3URL: http://cds.linear.com/docs/en/packaging/05081661_F_MS.pdf
footprint LT-MS-10_N (SOP, 10-Leads, Body 3.1x3.1mm, Pitch 0.5mm, IPC Medium Density)
footprint LT-MS-10_L (SOP, 10-Leads, Body 3.1x3.1mm, Pitch 0.5mm, IPC High Density)
footprint LT-MS-10_M (SOP, 10-Leads, Body 3.1x3.1mm, Pitch 0.5mm, IPC Low Density)
pins: 1 ~{RESET} (hiz) "Reset or Power-Good Output. Open drain output that pulls low if the FB pin voltage falls below its threshold (0.6V). During the start-up cycle, the R\E\S\E\T\ pin goes high impedance at the end of the second timing cycle (See Datasheet)", 2 ON (in) "ON Control Input. A rising edge above the ON pin threshold (0.8V) initiates the start-up cycle and turns on the external N-channel MOSFET. A falling edge below 0.72V (80mV ON pin hysteresis) turns it off. If this pin is (See Datasheet)", 3 FILTER (in) "Fault Filter Input. Connect a capacitor between this pin and ground to set up the fault filter delay. This pin sources 60uA or sinks 2.4uA when the voltage across the sense resistor exceeds 25mV or drops below 25mV (See Datasheet)", 4 TIMER (in) "Timer Input. Connect a capacitor between this pin and ground to set up the start-up timing cycle duration. It also defines the R\E\S\E\T\ power-good delay from the instant the FB pin voltage exceeds 0.6V. This pin sources (See Datasheet)", 5 GND (power) "Device Ground.", 6 FB (in) "Output Monitor for Reset Output. A resistive divider from the external MOSFET’s source terminal is tied to this pin. When the voltage at this pin drops below 0.6V, the R\E\S\E\T\ pin pulls low. The FB comparator fallin(See Datasheet)", 7 GATE (out) "Gate Drive for External N-Channel MOSFET. An internal charge pump provides 20uA gate pull-up current and sufficient gate overdrive to the external MOSFET. An internal shunt regulator limits the GATE pin voltage to about 6.2V (See Datasheet)", 8 SENSEN (in) "Circuit Breaker Negative Sense Input. Connect this pin to the sense resistor terminal wired to the drain of the external N-channel MOSFET. The sense resistor is placed in the power path between SENSEP and SENSEN pins to (See Datasheet)", 9 SENSEP (in) "Circuit Breaker Positive Sense Input. Connect this pin to the sense resistor terminal wired to the positive supply input for the external output load. This positive supply range extends from 0V to 6V.", 10 VCC (power) "Bias Supply Input. Operates from 2.3V to 6V. An internal undervoltage lockout circuit disables the device until the input supply voltage at VCC exceeds 2.12V typically."

## LTC4216IMS#PBF
designator U?
Ultralow Voltage Hot Swap Controller, 0 to 6 V Vin, 10-pin SOP (MS-10), -40 to 85 degC, Pb-Free; Manufacturer: Linear Technology; PartNumber: LTC4216IMS#PBF; Active Limiting: yes; Circuit Breaker Accuracy(%): 14; Circuit Breaker Threshold: 25 mV; Circuit Breakers(#): 1; Extended Temp: C, I; Fast Comparator: no; In-Rush Current: Active/SS; Vin Range: 0 to 6 V; DatasheetVersion: Rev. A; PackageVersion: Rev. E, 06/2010; PackageReference: MS-10; PackageDescription: 10-Pin Plastic MSOP, Body 3 x 3 mm, Pitch 0.5 mm; Supplier 1: Digi-Key; Supplier Part Number 1: LTC4216IMS#PBF-ND; Supplier 2: Farnell; Supplier Part Number 2: 2295334; Fault: yes; Foldback: no; Power Good: no; Reset: yes; RoHS: TRUE; Mounting Technology: Surface Mount; ComponentLink1Description: Manufacturer URL; ComponentLink1URL: http://www.linear.com/; ComponentLink2Description: Datasheet; ComponentLink2URL: http://cds.linear.com/docs/en/datasheet/4216fa.pdf; ComponentLink3Description: Package Specification; ComponentLink3URL: http://cds.linear.com/docs/en/packaging/05081661_F_MS.pdf
footprint LT-MS-10_N (SOP, 10-Leads, Body 3.1x3.1mm, Pitch 0.5mm, IPC Medium Density)
footprint LT-MS-10_L (SOP, 10-Leads, Body 3.1x3.1mm, Pitch 0.5mm, IPC High Density)
footprint LT-MS-10_M (SOP, 10-Leads, Body 3.1x3.1mm, Pitch 0.5mm, IPC Low Density)
pins: 1 ~{RESET} (hiz) "Reset or Power-Good Output. Open drain output that pulls low if the FB pin voltage falls below its threshold (0.6V). During the start-up cycle, the R\E\S\E\T\ pin goes high impedance at the end of the second timing cycle (See Datasheet)", 2 ON (in) "ON Control Input. A rising edge above the ON pin threshold (0.8V) initiates the start-up cycle and turns on the external N-channel MOSFET. A falling edge below 0.72V (80mV ON pin hysteresis) turns it off. If this pin is (See Datasheet)", 3 FILTER (in) "Fault Filter Input. Connect a capacitor between this pin and ground to set up the fault filter delay. This pin sources 60uA or sinks 2.4uA when the voltage across the sense resistor exceeds 25mV or drops below 25mV (See Datasheet)", 4 TIMER (in) "Timer Input. Connect a capacitor between this pin and ground to set up the start-up timing cycle duration. It also defines the R\E\S\E\T\ power-good delay from the instant the FB pin voltage exceeds 0.6V. This pin sources (See Datasheet)", 5 GND (power) "Device Ground.", 6 FB (in) "Output Monitor for Reset Output. A resistive divider from the external MOSFET’s source terminal is tied to this pin. When the voltage at this pin drops below 0.6V, the R\E\S\E\T\ pin pulls low. The FB comparator fallin(See Datasheet)", 7 GATE (out) "Gate Drive for External N-Channel MOSFET. An internal charge pump provides 20uA gate pull-up current and sufficient gate overdrive to the external MOSFET. An internal shunt regulator limits the GATE pin voltage to about 6.2V (See Datasheet)", 8 SENSEN (in) "Circuit Breaker Negative Sense Input. Connect this pin to the sense resistor terminal wired to the drain of the external N-channel MOSFET. The sense resistor is placed in the power path between SENSEP and SENSEN pins to (See Datasheet)", 9 SENSEP (in) "Circuit Breaker Positive Sense Input. Connect this pin to the sense resistor terminal wired to the positive supply input for the external output load. This positive supply range extends from 0V to 6V.", 10 VCC (power) "Bias Supply Input. Operates from 2.3V to 6V. An internal undervoltage lockout circuit disables the device until the input supply voltage at VCC exceeds 2.12V typically."

## LTC4216IMS#TR
designator U?
Ultralow Voltage Hot Swap Controller, 0 to 6 V Vin, 10-pin SOP (MS-10), -40 to 85 degC, Tape and Reel; Manufacturer: Linear Technology; PartNumber: LTC4216IMS#TR; Active Limiting: yes; Circuit Breaker Accuracy(%): 14; Circuit Breaker Threshold: 25 mV; Circuit Breakers(#): 1; Extended Temp: C, I; Fast Comparator: no; In-Rush Current: Active/SS; Vin Range: 0 to 6 V; DatasheetVersion: Rev. A; PackageVersion: Rev. E, 06/2010; PackageReference: MS-10; PackageDescription: 10-Pin Plastic MSOP, Body 3 x 3 mm, Pitch 0.5 mm; Fault: yes; Foldback: no; Packing: Tape and Reel; Power Good: no; Reset: yes; RoHS: FALSE; Mounting Technology: Surface Mount; ComponentLink1Description: Manufacturer URL; ComponentLink1URL: http://www.linear.com/; ComponentLink2Description: Datasheet; ComponentLink2URL: http://cds.linear.com/docs/en/datasheet/4216fa.pdf; ComponentLink3Description: Package Specification; ComponentLink3URL: http://cds.linear.com/docs/en/packaging/05081661_F_MS.pdf
footprint LT-MS-10_N (SOP, 10-Leads, Body 3.1x3.1mm, Pitch 0.5mm, IPC Medium Density)
footprint LT-MS-10_L (SOP, 10-Leads, Body 3.1x3.1mm, Pitch 0.5mm, IPC High Density)
footprint LT-MS-10_M (SOP, 10-Leads, Body 3.1x3.1mm, Pitch 0.5mm, IPC Low Density)
pins: 1 ~{RESET} (hiz) "Reset or Power-Good Output. Open drain output that pulls low if the FB pin voltage falls below its threshold (0.6V). During the start-up cycle, the R\E\S\E\T\ pin goes high impedance at the end of the second timing cycle (See Datasheet)", 2 ON (in) "ON Control Input. A rising edge above the ON pin threshold (0.8V) initiates the start-up cycle and turns on the external N-channel MOSFET. A falling edge below 0.72V (80mV ON pin hysteresis) turns it off. If this pin is (See Datasheet)", 3 FILTER (in) "Fault Filter Input. Connect a capacitor between this pin and ground to set up the fault filter delay. This pin sources 60uA or sinks 2.4uA when the voltage across the sense resistor exceeds 25mV or drops below 25mV (See Datasheet)", 4 TIMER (in) "Timer Input. Connect a capacitor between this pin and ground to set up the start-up timing cycle duration. It also defines the R\E\S\E\T\ power-good delay from the instant the FB pin voltage exceeds 0.6V. This pin sources (See Datasheet)", 5 GND (power) "Device Ground.", 6 FB (in) "Output Monitor for Reset Output. A resistive divider from the external MOSFET’s source terminal is tied to this pin. When the voltage at this pin drops below 0.6V, the R\E\S\E\T\ pin pulls low. The FB comparator fallin(See Datasheet)", 7 GATE (out) "Gate Drive for External N-Channel MOSFET. An internal charge pump provides 20uA gate pull-up current and sufficient gate overdrive to the external MOSFET. An internal shunt regulator limits the GATE pin voltage to about 6.2V (See Datasheet)", 8 SENSEN (in) "Circuit Breaker Negative Sense Input. Connect this pin to the sense resistor terminal wired to the drain of the external N-channel MOSFET. The sense resistor is placed in the power path between SENSEP and SENSEN pins to (See Datasheet)", 9 SENSEP (in) "Circuit Breaker Positive Sense Input. Connect this pin to the sense resistor terminal wired to the positive supply input for the external output load. This positive supply range extends from 0V to 6V.", 10 VCC (power) "Bias Supply Input. Operates from 2.3V to 6V. An internal undervoltage lockout circuit disables the device until the input supply voltage at VCC exceeds 2.12V typically."